# EAGLE library part MAX232 (library ic)
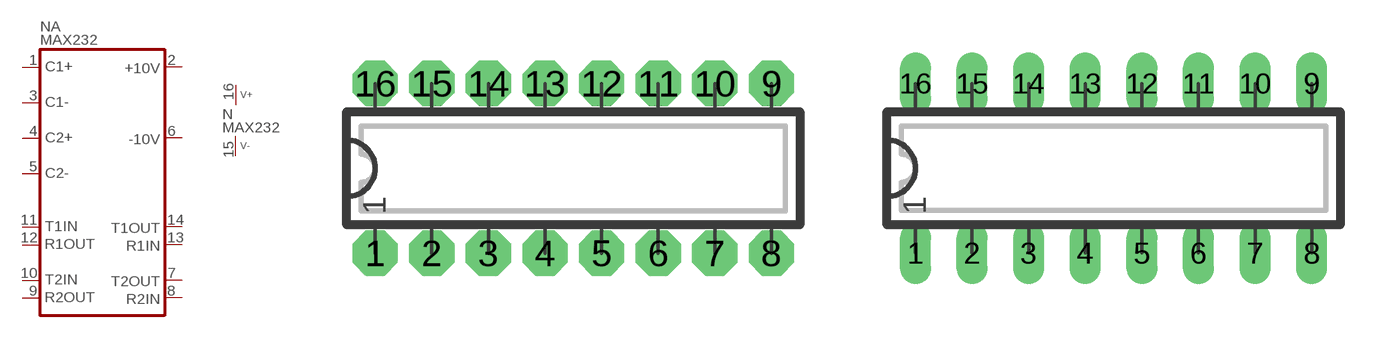
[diagram p19: symbol with the pads of DIP16N; footprints DIP16N, DIP16L]

Designator prefix N; gates A=MAX232 P=V+-

## MAX232N  [DIP16N]
1  A:C1+  pas
2  A:+10V  out
3  A:C1-  pas
4  A:C2+  pas
5  A:C2-  pas
6  A:-10V  out
7  A:T2OUT  out
8  A:R2IN  in
9  A:R2OUT  out
10  A:T2IN  in
11  A:T1IN  in
12  A:R1OUT  out
13  A:R1IN  in
14  A:T1OUT  out
15  P:V-  pwr
16  P:V+  pwr

## MAX232  [DIP16L]
Pads as for DIP16N

## MAX232L  [DIP16L]
Pads as for DIP16N

## MAX232R  [DIP16R]
Pads as for DIP16N

## Footprint DIP16N (pad centres in mm)
DIP-16 Standard IC package, 16 pins
drill 0.813 pad 2.032 octagon: 1 -8.89,-3.81; 2 -6.35,-3.81; 3 -3.81,-3.81; 4 -1.27,-3.81; 5 1.27,-3.81; 6 3.81,-3.81; 7 6.35,-3.81; 8 8.89,-3.81; 9 8.89,3.81; 10 6.35,3.81; 11 3.81,3.81; 12 1.27,3.81; 13 -1.27,3.81; 14 -3.81,3.81; 15 -6.35,3.81; 16 -8.89,3.81

## Footprint DIP16L (pad centres in mm)
DIP-16, long pads Standard IC package, 16 pins
drill 0.813 pad 1.397 long: 1 -8.89,-3.81; 2 -6.35,-3.81; 3 -3.81,-3.81; 4 -1.27,-3.81; 5 1.27,-3.81; 6 3.81,-3.81; 7 6.35,-3.81; 8 8.89,-3.81; 9 8.89,3.81; 10 6.35,3.81; 11 3.81,3.81; 12 1.27,3.81; 13 -1.27,3.81; 14 -3.81,3.81; 15 -6.35,3.81; 16 -8.89,3.81

## Footprint DIP16R (pad centres in mm)
DIP-16, reduced pads Standard IC package, 16 pins
drill 0.813 pad 1.397 square: 1 -8.89,-3.81; 2 -6.35,-3.81; 3 -3.81,-3.81; 4 -1.27,-3.81; 5 1.27,-3.81; 6 3.81,-3.81; 7 6.35,-3.81; 8 8.89,-3.81; 9 8.89,3.81; 10 6.35,3.81; 11 3.81,3.81; 12 1.27,3.81; 13 -1.27,3.81; 14 -3.81,3.81; 15 -6.35,3.81; 16 -8.89,3.81